# Altium footprint library CAPASITOR_+.PcbLib: 1 footprints
Each footprint in its own frame and in the unit in brackets; x right, y up, seen from the top. Pads: shape width x height; smd on the part's side, far side on the other; paste and mask are expansions set on the pad; w line width, h text height; cw(c..) or ccw(c..) is an arc to the next point about the centre after c.
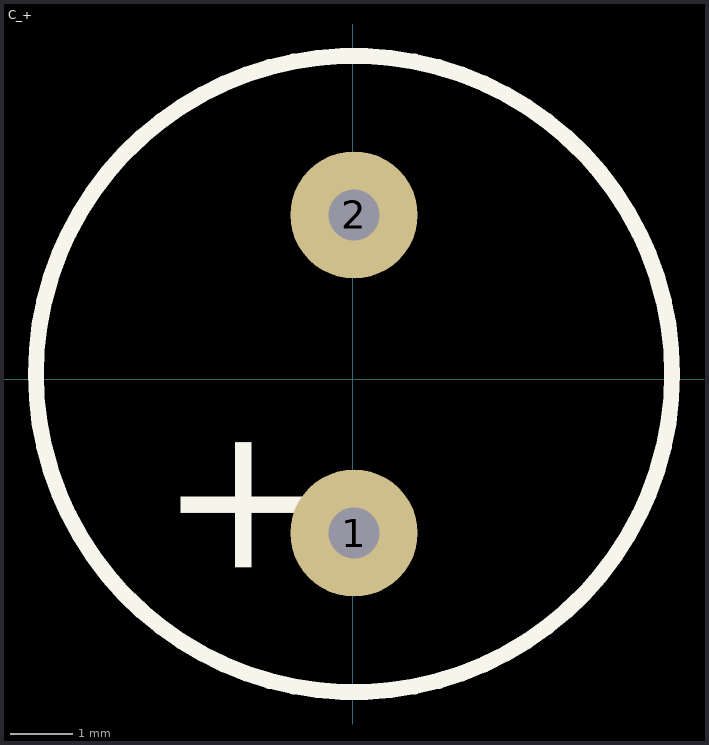
[diagram p0: the footprint, top view; thin cyan lines are the x and y axes]

## C_+ [mil]
pads (2):
  round 80 hole 32: 1(0.79,-96.85) 2(0.79,103.15)
Top Overlay:
  circle w10: c0.79,3.15 r200
  text "+" at -29.21,-131.85 h100